# Altium schematic symbol library Resistors_CPF-0805.SchLib: 384 symbols (part 2 of 3)
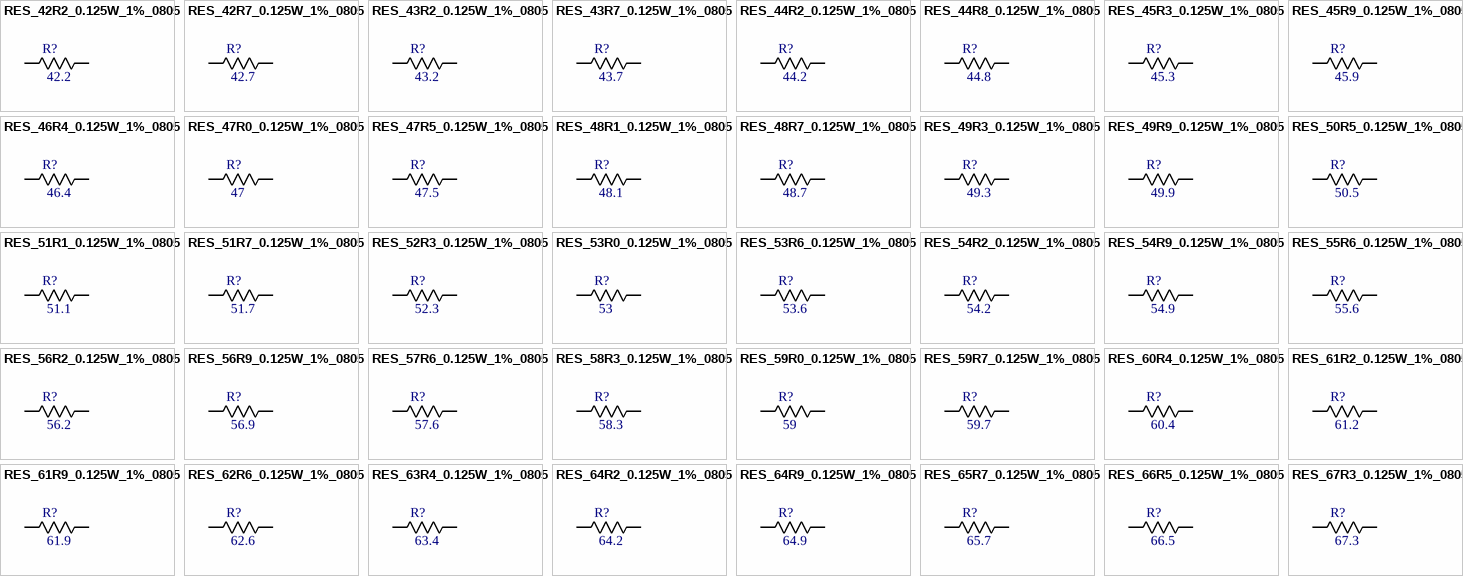
[diagram p10: symbols RES_42R2_0.125W_1%_0805 to RES_67R3_0.125W_1%_0805]

## RES_56R2_0.125W_1%_0805
designator R?, comment 56.2
Resistenza SMD TE Connectivity Film sottile; Manufacturer_Part_Number: CPF0805B100RE; Voltage[V]: 100; Tollerance[%]: 0.1; Serie: CPF; Codice RS: 666-2516; Vendor: TE Connectivity; Type: Resistors; Package: 0805; Power[W]: 0.1; Value[OHM ]: 100
footprint RES_0816_SUS(My_MAXI)
pins: 1, 2

## RES_56R9_0.125W_1%_0805
designator R?, comment 56.9
Resistenza SMD TE Connectivity Film sottile; Manufacturer_Part_Number: CPF0805B100RE; Voltage[V]: 100; Tollerance[%]: 0.1; Serie: CPF; Codice RS: 666-2516; Vendor: TE Connectivity; Type: Resistors; Package: 0805; Power[W]: 0.1; Value[OHM ]: 100
footprint RES_0816_SUS(My_MAXI)
pins: 1, 2

## RES_57R6_0.125W_1%_0805
designator R?, comment 57.6
Resistenza SMD TE Connectivity Film sottile; Manufacturer_Part_Number: CPF0805B100RE; Voltage[V]: 100; Tollerance[%]: 0.1; Serie: CPF; Codice RS: 666-2516; Vendor: TE Connectivity; Type: Resistors; Package: 0805; Power[W]: 0.1; Value[OHM ]: 100
footprint RES_0816_SUS(My_MAXI)
pins: 1, 2

## RES_58R3_0.125W_1%_0805
designator R?, comment 58.3
Resistenza SMD TE Connectivity Film sottile; Manufacturer_Part_Number: CPF0805B100RE; Voltage[V]: 100; Tollerance[%]: 0.1; Serie: CPF; Codice RS: 666-2516; Vendor: TE Connectivity; Type: Resistors; Package: 0805; Power[W]: 0.1; Value[OHM ]: 100
footprint RES_0816_SUS(My_MAXI)
pins: 1, 2

## RES_59R0_0.125W_1%_0805
designator R?, comment 59
Resistenza SMD TE Connectivity Film sottile; Manufacturer_Part_Number: CPF0805B100RE; Voltage[V]: 100; Tollerance[%]: 0.1; Serie: CPF; Codice RS: 666-2516; Vendor: TE Connectivity; Type: Resistors; Package: 0805; Power[W]: 0.1; Value[OHM ]: 100
footprint RES_0816_SUS(My_MAXI)
pins: 1, 2

## RES_59R7_0.125W_1%_0805
designator R?, comment 59.7
Resistenza SMD TE Connectivity Film sottile; Manufacturer_Part_Number: CPF0805B100RE; Voltage[V]: 100; Tollerance[%]: 0.1; Serie: CPF; Codice RS: 666-2516; Vendor: TE Connectivity; Type: Resistors; Package: 0805; Power[W]: 0.1; Value[OHM ]: 100
footprint RES_0816_SUS(My_MAXI)
pins: 1, 2

## RES_60R4_0.125W_1%_0805
designator R?, comment 60.4
Resistenza SMD TE Connectivity Film sottile; Manufacturer_Part_Number: CPF0805B100RE; Voltage[V]: 100; Tollerance[%]: 0.1; Serie: CPF; Codice RS: 666-2516; Vendor: TE Connectivity; Type: Resistors; Package: 0805; Power[W]: 0.1; Value[OHM ]: 100
footprint RES_0816_SUS(My_MAXI)
pins: 1, 2

## RES_61R2_0.125W_1%_0805
designator R?, comment 61.2
Resistenza SMD TE Connectivity Film sottile; Manufacturer_Part_Number: CPF0805B100RE; Voltage[V]: 100; Tollerance[%]: 0.1; Serie: CPF; Codice RS: 666-2516; Vendor: TE Connectivity; Type: Resistors; Package: 0805; Power[W]: 0.1; Value[OHM ]: 100
footprint RES_0816_SUS(My_MAXI)
pins: 1, 2

## RES_61R9_0.125W_1%_0805
designator R?, comment 61.9
Resistenza SMD TE Connectivity Film sottile; Manufacturer_Part_Number: CPF0805B100RE; Voltage[V]: 100; Tollerance[%]: 0.1; Serie: CPF; Codice RS: 666-2516; Vendor: TE Connectivity; Type: Resistors; Package: 0805; Power[W]: 0.1; Value[OHM ]: 100
footprint RES_0816_SUS(My_MAXI)
pins: 1, 2

## RES_62R6_0.125W_1%_0805
designator R?, comment 62.6
Resistenza SMD TE Connectivity Film sottile; Manufacturer_Part_Number: CPF0805B100RE; Voltage[V]: 100; Tollerance[%]: 0.1; Serie: CPF; Codice RS: 666-2516; Vendor: TE Connectivity; Type: Resistors; Package: 0805; Power[W]: 0.1; Value[OHM ]: 100
footprint RES_0816_SUS(My_MAXI)
pins: 1, 2

## RES_63R4_0.125W_1%_0805
designator R?, comment 63.4
Resistenza SMD TE Connectivity Film sottile; Manufacturer_Part_Number: CPF0805B100RE; Voltage[V]: 100; Tollerance[%]: 0.1; Serie: CPF; Codice RS: 666-2516; Vendor: TE Connectivity; Type: Resistors; Package: 0805; Power[W]: 0.1; Value[OHM ]: 100
footprint RES_0816_SUS(My_MAXI)
pins: 1, 2

## RES_64R2_0.125W_1%_0805
designator R?, comment 64.2
Resistenza SMD TE Connectivity Film sottile; Manufacturer_Part_Number: CPF0805B100RE; Voltage[V]: 100; Tollerance[%]: 0.1; Serie: CPF; Codice RS: 666-2516; Vendor: TE Connectivity; Type: Resistors; Package: 0805; Power[W]: 0.1; Value[OHM ]: 100
footprint RES_0816_SUS(My_MAXI)
pins: 1, 2

## RES_64R9_0.125W_1%_0805
designator R?, comment 64.9
Resistenza SMD TE Connectivity Film sottile; Manufacturer_Part_Number: CPF0805B100RE; Voltage[V]: 100; Tollerance[%]: 0.1; Serie: CPF; Codice RS: 666-2516; Vendor: TE Connectivity; Type: Resistors; Package: 0805; Power[W]: 0.1; Value[OHM ]: 100
footprint RES_0816_SUS(My_MAXI)
pins: 1, 2

## RES_65R7_0.125W_1%_0805
designator R?, comment 65.7
Resistenza SMD TE Connectivity Film sottile; Manufacturer_Part_Number: CPF0805B100RE; Voltage[V]: 100; Tollerance[%]: 0.1; Serie: CPF; Codice RS: 666-2516; Vendor: TE Connectivity; Type: Resistors; Package: 0805; Power[W]: 0.1; Value[OHM ]: 100
footprint RES_0816_SUS(My_MAXI)
pins: 1, 2

## RES_66R5_0.125W_1%_0805
designator R?, comment 66.5
Resistenza SMD TE Connectivity Film sottile; Manufacturer_Part_Number: CPF0805B100RE; Voltage[V]: 100; Tollerance[%]: 0.1; Serie: CPF; Codice RS: 666-2516; Vendor: TE Connectivity; Type: Resistors; Package: 0805; Power[W]: 0.1; Value[OHM ]: 100
footprint RES_0816_SUS(My_MAXI)
pins: 1, 2

## RES_67R3_0.125W_1%_0805
designator R?, comment 67.3
Resistenza SMD TE Connectivity Film sottile; Manufacturer_Part_Number: CPF0805B100RE; Voltage[V]: 100; Tollerance[%]: 0.1; Serie: CPF; Codice RS: 666-2516; Vendor: TE Connectivity; Type: Resistors; Package: 0805; Power[W]: 0.1; Value[OHM ]: 100
footprint RES_0816_SUS(My_MAXI)
pins: 1, 2

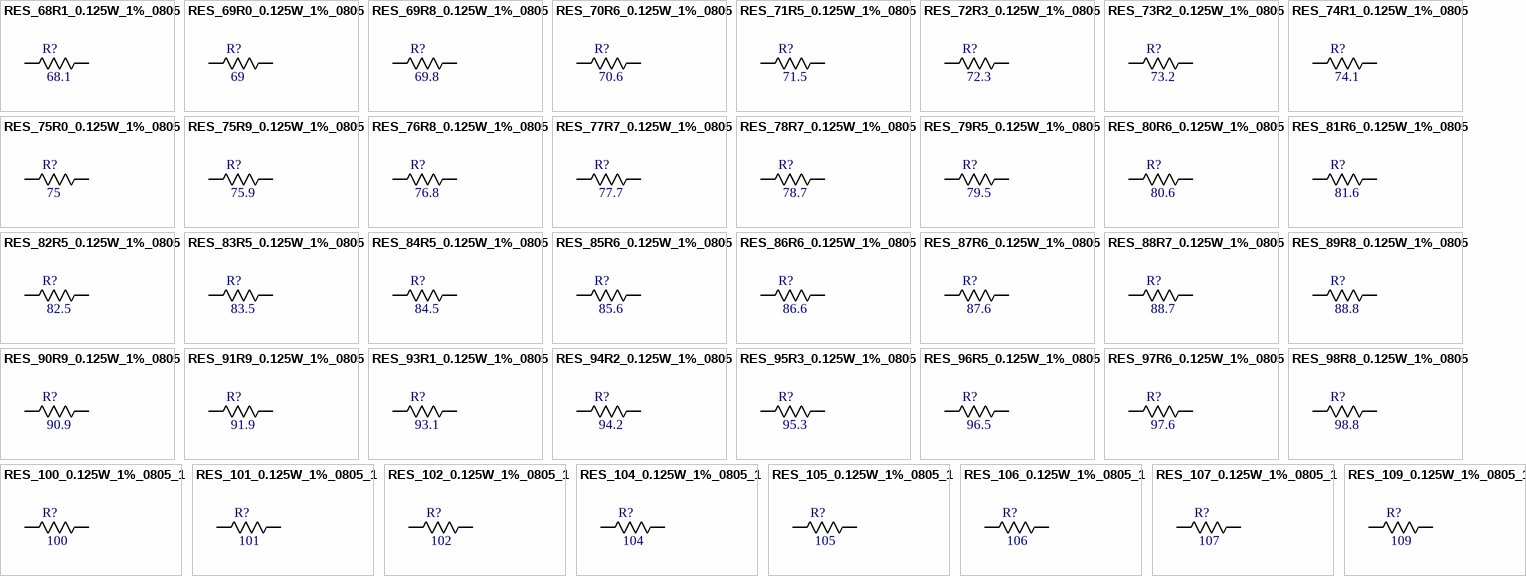
[diagram p4: symbols RES_68R1_0.125W_1%_0805 to RES_109_0.125W_1%_0805_1]

## RES_68R1_0.125W_1%_0805
designator R?, comment 68.1
Resistenza SMD TE Connectivity Film sottile; Manufacturer_Part_Number: CPF0805B100RE; Voltage[V]: 100; Tollerance[%]: 0.1; Serie: CPF; Codice RS: 666-2516; Vendor: TE Connectivity; Type: Resistors; Package: 0805; Power[W]: 0.1; Value[OHM ]: 100
footprint RES_0816_SUS(My_MAXI)
pins: 1, 2

## RES_69R0_0.125W_1%_0805
designator R?, comment 69
Resistenza SMD TE Connectivity Film sottile; Manufacturer_Part_Number: CPF0805B100RE; Voltage[V]: 100; Tollerance[%]: 0.1; Serie: CPF; Codice RS: 666-2516; Vendor: TE Connectivity; Type: Resistors; Package: 0805; Power[W]: 0.1; Value[OHM ]: 100
footprint RES_0816_SUS(My_MAXI)
pins: 1, 2

## RES_69R8_0.125W_1%_0805
designator R?, comment 69.8
Resistenza SMD TE Connectivity Film sottile; Manufacturer_Part_Number: CPF0805B100RE; Voltage[V]: 100; Tollerance[%]: 0.1; Serie: CPF; Codice RS: 666-2516; Vendor: TE Connectivity; Type: Resistors; Package: 0805; Power[W]: 0.1; Value[OHM ]: 100
footprint RES_0816_SUS(My_MAXI)
pins: 1, 2

## RES_70R6_0.125W_1%_0805
designator R?, comment 70.6
Resistenza SMD TE Connectivity Film sottile; Manufacturer_Part_Number: CPF0805B100RE; Voltage[V]: 100; Tollerance[%]: 0.1; Serie: CPF; Codice RS: 666-2516; Vendor: TE Connectivity; Type: Resistors; Package: 0805; Power[W]: 0.1; Value[OHM ]: 100
footprint RES_0816_SUS(My_MAXI)
pins: 1, 2

## RES_71R5_0.125W_1%_0805
designator R?, comment 71.5
Resistenza SMD TE Connectivity Film sottile; Manufacturer_Part_Number: CPF0805B100RE; Voltage[V]: 100; Tollerance[%]: 0.1; Serie: CPF; Codice RS: 666-2516; Vendor: TE Connectivity; Type: Resistors; Package: 0805; Power[W]: 0.1; Value[OHM ]: 100
footprint RES_0816_SUS(My_MAXI)
pins: 1, 2

## RES_72R3_0.125W_1%_0805
designator R?, comment 72.3
Resistenza SMD TE Connectivity Film sottile; Manufacturer_Part_Number: CPF0805B100RE; Voltage[V]: 100; Tollerance[%]: 0.1; Serie: CPF; Codice RS: 666-2516; Vendor: TE Connectivity; Type: Resistors; Package: 0805; Power[W]: 0.1; Value[OHM ]: 100
footprint RES_0816_SUS(My_MAXI)
pins: 1, 2

## RES_73R2_0.125W_1%_0805
designator R?, comment 73.2
Resistenza SMD TE Connectivity Film sottile; Manufacturer_Part_Number: CPF0805B100RE; Voltage[V]: 100; Tollerance[%]: 0.1; Serie: CPF; Codice RS: 666-2516; Vendor: TE Connectivity; Type: Resistors; Package: 0805; Power[W]: 0.1; Value[OHM ]: 100
footprint RES_0816_SUS(My_MAXI)
pins: 1, 2

## RES_74R1_0.125W_1%_0805
designator R?, comment 74.1
Resistenza SMD TE Connectivity Film sottile; Manufacturer_Part_Number: CPF0805B100RE; Voltage[V]: 100; Tollerance[%]: 0.1; Serie: CPF; Codice RS: 666-2516; Vendor: TE Connectivity; Type: Resistors; Package: 0805; Power[W]: 0.1; Value[OHM ]: 100
footprint RES_0816_SUS(My_MAXI)
pins: 1, 2

## RES_75R0_0.125W_1%_0805
designator R?, comment 75
Resistenza SMD TE Connectivity Film sottile; Manufacturer_Part_Number: CPF0805B100RE; Voltage[V]: 100; Tollerance[%]: 0.1; Serie: CPF; Codice RS: 666-2516; Vendor: TE Connectivity; Type: Resistors; Package: 0805; Power[W]: 0.1; Value[OHM ]: 100
footprint RES_0816_SUS(My_MAXI)
pins: 1, 2

## RES_75R9_0.125W_1%_0805
designator R?, comment 75.9
Resistenza SMD TE Connectivity Film sottile; Manufacturer_Part_Number: CPF0805B100RE; Voltage[V]: 100; Tollerance[%]: 0.1; Serie: CPF; Codice RS: 666-2516; Vendor: TE Connectivity; Type: Resistors; Package: 0805; Power[W]: 0.1; Value[OHM ]: 100
footprint RES_0816_SUS(My_MAXI)
pins: 1, 2

## RES_76R8_0.125W_1%_0805
designator R?, comment 76.8
Resistenza SMD TE Connectivity Film sottile; Manufacturer_Part_Number: CPF0805B100RE; Voltage[V]: 100; Tollerance[%]: 0.1; Serie: CPF; Codice RS: 666-2516; Vendor: TE Connectivity; Type: Resistors; Package: 0805; Power[W]: 0.1; Value[OHM ]: 100
footprint RES_0816_SUS(My_MAXI)
pins: 1, 2

## RES_77R7_0.125W_1%_0805
designator R?, comment 77.7
Resistenza SMD TE Connectivity Film sottile; Manufacturer_Part_Number: CPF0805B100RE; Voltage[V]: 100; Tollerance[%]: 0.1; Serie: CPF; Codice RS: 666-2516; Vendor: TE Connectivity; Type: Resistors; Package: 0805; Power[W]: 0.1; Value[OHM ]: 100
footprint RES_0816_SUS(My_MAXI)
pins: 1, 2

## RES_78R7_0.125W_1%_0805
designator R?, comment 78.7
Resistenza SMD TE Connectivity Film sottile; Manufacturer_Part_Number: CPF0805B100RE; Voltage[V]: 100; Tollerance[%]: 0.1; Serie: CPF; Codice RS: 666-2516; Vendor: TE Connectivity; Type: Resistors; Package: 0805; Power[W]: 0.1; Value[OHM ]: 100
footprint RES_0816_SUS(My_MAXI)
pins: 1, 2

## RES_79R5_0.125W_1%_0805
designator R?, comment 79.5
Resistenza SMD TE Connectivity Film sottile; Manufacturer_Part_Number: CPF0805B100RE; Voltage[V]: 100; Tollerance[%]: 0.1; Serie: CPF; Codice RS: 666-2516; Vendor: TE Connectivity; Type: Resistors; Package: 0805; Power[W]: 0.1; Value[OHM ]: 100
footprint RES_0816_SUS(My_MAXI)
pins: 1, 2

## RES_80R6_0.125W_1%_0805
designator R?, comment 80.6
Resistenza SMD TE Connectivity Film sottile; Manufacturer_Part_Number: CPF0805B100RE; Voltage[V]: 100; Tollerance[%]: 0.1; Serie: CPF; Codice RS: 666-2516; Vendor: TE Connectivity; Type: Resistors; Package: 0805; Power[W]: 0.1; Value[OHM ]: 100
footprint RES_0816_SUS(My_MAXI)
pins: 1, 2

## RES_81R6_0.125W_1%_0805
designator R?, comment 81.6
Resistenza SMD TE Connectivity Film sottile; Manufacturer_Part_Number: CPF0805B100RE; Voltage[V]: 100; Tollerance[%]: 0.1; Serie: CPF; Codice RS: 666-2516; Vendor: TE Connectivity; Type: Resistors; Package: 0805; Power[W]: 0.1; Value[OHM ]: 100
footprint RES_0816_SUS(My_MAXI)
pins: 1, 2

## RES_82R5_0.125W_1%_0805
designator R?, comment 82.5
Resistenza SMD TE Connectivity Film sottile; Manufacturer_Part_Number: CPF0805B100RE; Voltage[V]: 100; Tollerance[%]: 0.1; Serie: CPF; Codice RS: 666-2516; Vendor: TE Connectivity; Type: Resistors; Package: 0805; Power[W]: 0.1; Value[OHM ]: 100
footprint RES_0816_SUS(My_MAXI)
pins: 1, 2

## RES_83R5_0.125W_1%_0805
designator R?, comment 83.5
Resistenza SMD TE Connectivity Film sottile; Manufacturer_Part_Number: CPF0805B100RE; Voltage[V]: 100; Tollerance[%]: 0.1; Serie: CPF; Codice RS: 666-2516; Vendor: TE Connectivity; Type: Resistors; Package: 0805; Power[W]: 0.1; Value[OHM ]: 100
footprint RES_0816_SUS(My_MAXI)
pins: 1, 2

## RES_84R5_0.125W_1%_0805
designator R?, comment 84.5
Resistenza SMD TE Connectivity Film sottile; Manufacturer_Part_Number: CPF0805B100RE; Voltage[V]: 100; Tollerance[%]: 0.1; Serie: CPF; Codice RS: 666-2516; Vendor: TE Connectivity; Type: Resistors; Package: 0805; Power[W]: 0.1; Value[OHM ]: 100
footprint RES_0816_SUS(My_MAXI)
pins: 1, 2

## RES_85R6_0.125W_1%_0805
designator R?, comment 85.6
Resistenza SMD TE Connectivity Film sottile; Manufacturer_Part_Number: CPF0805B100RE; Voltage[V]: 100; Tollerance[%]: 0.1; Serie: CPF; Codice RS: 666-2516; Vendor: TE Connectivity; Type: Resistors; Package: 0805; Power[W]: 0.1; Value[OHM ]: 100
footprint RES_0816_SUS(My_MAXI)
pins: 1, 2

## RES_86R6_0.125W_1%_0805
designator R?, comment 86.6
Resistenza SMD TE Connectivity Film sottile; Manufacturer_Part_Number: CPF0805B100RE; Voltage[V]: 100; Tollerance[%]: 0.1; Serie: CPF; Codice RS: 666-2516; Vendor: TE Connectivity; Type: Resistors; Package: 0805; Power[W]: 0.1; Value[OHM ]: 100
footprint RES_0816_SUS(My_MAXI)
pins: 1, 2

## RES_87R6_0.125W_1%_0805
designator R?, comment 87.6
Resistenza SMD TE Connectivity Film sottile; Manufacturer_Part_Number: CPF0805B100RE; Voltage[V]: 100; Tollerance[%]: 0.1; Serie: CPF; Codice RS: 666-2516; Vendor: TE Connectivity; Type: Resistors; Package: 0805; Power[W]: 0.1; Value[OHM ]: 100
footprint RES_0816_SUS(My_MAXI)
pins: 1, 2

## RES_88R7_0.125W_1%_0805
designator R?, comment 88.7
Resistenza SMD TE Connectivity Film sottile; Manufacturer_Part_Number: CPF0805B100RE; Voltage[V]: 100; Tollerance[%]: 0.1; Serie: CPF; Codice RS: 666-2516; Vendor: TE Connectivity; Type: Resistors; Package: 0805; Power[W]: 0.1; Value[OHM ]: 100
footprint RES_0816_SUS(My_MAXI)
pins: 1, 2

## RES_89R8_0.125W_1%_0805
designator R?, comment 88.8
Resistenza SMD TE Connectivity Film sottile; Manufacturer_Part_Number: CPF0805B100RE; Voltage[V]: 100; Tollerance[%]: 0.1; Serie: CPF; Codice RS: 666-2516; Vendor: TE Connectivity; Type: Resistors; Package: 0805; Power[W]: 0.1; Value[OHM ]: 100
footprint RES_0816_SUS(My_MAXI)
pins: 1, 2

## RES_90R9_0.125W_1%_0805
designator R?, comment 90.9
Resistenza SMD TE Connectivity Film sottile; Manufacturer_Part_Number: CPF0805B100RE; Voltage[V]: 100; Tollerance[%]: 0.1; Serie: CPF; Codice RS: 666-2516; Vendor: TE Connectivity; Type: Resistors; Package: 0805; Power[W]: 0.1; Value[OHM ]: 100
footprint RES_0816_SUS(My_MAXI)
pins: 1, 2

## RES_91R9_0.125W_1%_0805
designator R?, comment 91.9
Resistenza SMD TE Connectivity Film sottile; Manufacturer_Part_Number: CPF0805B100RE; Voltage[V]: 100; Tollerance[%]: 0.1; Serie: CPF; Codice RS: 666-2516; Vendor: TE Connectivity; Type: Resistors; Package: 0805; Power[W]: 0.1; Value[OHM ]: 100
footprint RES_0816_SUS(My_MAXI)
pins: 1, 2

## RES_93R1_0.125W_1%_0805
designator R?, comment 93.1
Resistenza SMD TE Connectivity Film sottile; Manufacturer_Part_Number: CPF0805B100RE; Voltage[V]: 100; Tollerance[%]: 0.1; Serie: CPF; Codice RS: 666-2516; Vendor: TE Connectivity; Type: Resistors; Package: 0805; Power[W]: 0.1; Value[OHM ]: 100
footprint RES_0816_SUS(My_MAXI)
pins: 1, 2

## RES_94R2_0.125W_1%_0805
designator R?, comment 94.2
Resistenza SMD TE Connectivity Film sottile; Manufacturer_Part_Number: CPF0805B100RE; Voltage[V]: 100; Tollerance[%]: 0.1; Serie: CPF; Codice RS: 666-2516; Vendor: TE Connectivity; Type: Resistors; Package: 0805; Power[W]: 0.1; Value[OHM ]: 100
footprint RES_0816_SUS(My_MAXI)
pins: 1, 2

## RES_95R3_0.125W_1%_0805
designator R?, comment 95.3
Resistenza SMD TE Connectivity Film sottile; Manufacturer_Part_Number: CPF0805B100RE; Voltage[V]: 100; Tollerance[%]: 0.1; Serie: CPF; Codice RS: 666-2516; Vendor: TE Connectivity; Type: Resistors; Package: 0805; Power[W]: 0.1; Value[OHM ]: 100
footprint RES_0816_SUS(My_MAXI)
pins: 1, 2

## RES_96R5_0.125W_1%_0805
designator R?, comment 96.5
Resistenza SMD TE Connectivity Film sottile; Manufacturer_Part_Number: CPF0805B100RE; Voltage[V]: 100; Tollerance[%]: 0.1; Serie: CPF; Codice RS: 666-2516; Vendor: TE Connectivity; Type: Resistors; Package: 0805; Power[W]: 0.1; Value[OHM ]: 100
footprint RES_0816_SUS(My_MAXI)
pins: 1, 2

## RES_97R6_0.125W_1%_0805
designator R?, comment 97.6
Resistenza SMD TE Connectivity Film sottile; Manufacturer_Part_Number: CPF0805B100RE; Voltage[V]: 100; Tollerance[%]: 0.1; Serie: CPF; Codice RS: 666-2516; Vendor: TE Connectivity; Type: Resistors; Package: 0805; Power[W]: 0.1; Value[OHM ]: 100
footprint RES_0816_SUS(My_MAXI)
pins: 1, 2

## RES_98R8_0.125W_1%_0805
designator R?, comment 98.8
Resistenza SMD TE Connectivity Film sottile; Manufacturer_Part_Number: CPF0805B100RE; Voltage[V]: 100; Tollerance[%]: 0.1; Serie: CPF; Codice RS: 666-2516; Vendor: TE Connectivity; Type: Resistors; Package: 0805; Power[W]: 0.1; Value[OHM ]: 100
footprint RES_0816_SUS(My_MAXI)
pins: 1, 2

## RES_100_0.125W_1%_0805_1
designator R?, comment 100
Resistenza SMD TE Connectivity Film sottile; Manufacturer_Part_Number: CPF0805B100RE; Tollerance[%]: 0.1; Serie: CPF; Codice RS: 666-2516; Vendor: TE Connectivity; Type: Resistors; Voltage[V]: 100; Package: 0805; Power[W]: 0.1; Value[OHM ]: 100
footprint RES_0816_SUS(My_MAXI)
pins: 1, 2

## RES_101_0.125W_1%_0805_1
designator R?, comment 101
Resistenza SMD TE Connectivity Film sottile; Manufacturer_Part_Number: CPF0805B100RE; Voltage[V]: 100; Tollerance[%]: 0.1; Serie: CPF; Codice RS: 666-2516; Vendor: TE Connectivity; Type: Resistors; Package: 0805; Power[W]: 0.1; Value[OHM ]: 100
footprint RES_0816_SUS(My_MAXI)
pins: 1, 2

## RES_102_0.125W_1%_0805_1
designator R?, comment 102
Resistenza SMD TE Connectivity Film sottile; Manufacturer_Part_Number: CPF0805B100RE; Voltage[V]: 100; Tollerance[%]: 0.1; Serie: CPF; Codice RS: 666-2516; Vendor: TE Connectivity; Type: Resistors; Package: 0805; Power[W]: 0.1; Value[OHM ]: 100
footprint RES_0816_SUS(My_MAXI)
pins: 1, 2

## RES_104_0.125W_1%_0805_1
designator R?, comment 104
Resistenza SMD TE Connectivity Film sottile; Manufacturer_Part_Number: CPF0805B100RE; Voltage[V]: 100; Tollerance[%]: 0.1; Serie: CPF; Codice RS: 666-2516; Vendor: TE Connectivity; Type: Resistors; Package: 0805; Power[W]: 0.1; Value[OHM ]: 100
footprint RES_0816_SUS(My_MAXI)
pins: 1, 2

## RES_105_0.125W_1%_0805_1
designator R?, comment 105
Resistenza SMD TE Connectivity Film sottile; Manufacturer_Part_Number: CPF0805B100RE; Voltage[V]: 100; Tollerance[%]: 0.1; Serie: CPF; Codice RS: 666-2516; Vendor: TE Connectivity; Type: Resistors; Package: 0805; Power[W]: 0.1; Value[OHM ]: 100
footprint RES_0816_SUS(My_MAXI)
pins: 1, 2

## RES_106_0.125W_1%_0805_1
designator R?, comment 106
Resistenza SMD TE Connectivity Film sottile; Manufacturer_Part_Number: CPF0805B100RE; Voltage[V]: 100; Tollerance[%]: 0.1; Serie: CPF; Codice RS: 666-2516; Vendor: TE Connectivity; Type: Resistors; Package: 0805; Power[W]: 0.1; Value[OHM ]: 100
footprint RES_0816_SUS(My_MAXI)
pins: 1, 2

## RES_107_0.125W_1%_0805_1
designator R?, comment 107
Resistenza SMD TE Connectivity Film sottile; Manufacturer_Part_Number: CPF0805B100RE; Voltage[V]: 100; Tollerance[%]: 0.1; Serie: CPF; Codice RS: 666-2516; Vendor: TE Connectivity; Type: Resistors; Package: 0805; Power[W]: 0.1; Value[OHM ]: 100
footprint RES_0816_SUS(My_MAXI)
pins: 1, 2

## RES_109_0.125W_1%_0805_1
designator R?, comment 109
Resistenza SMD TE Connectivity Film sottile; Manufacturer_Part_Number: CPF0805B100RE; Voltage[V]: 100; Tollerance[%]: 0.1; Serie: CPF; Codice RS: 666-2516; Vendor: TE Connectivity; Type: Resistors; Package: 0805; Power[W]: 0.1; Value[OHM ]: 100
footprint RES_0816_SUS(My_MAXI)
pins: 1, 2

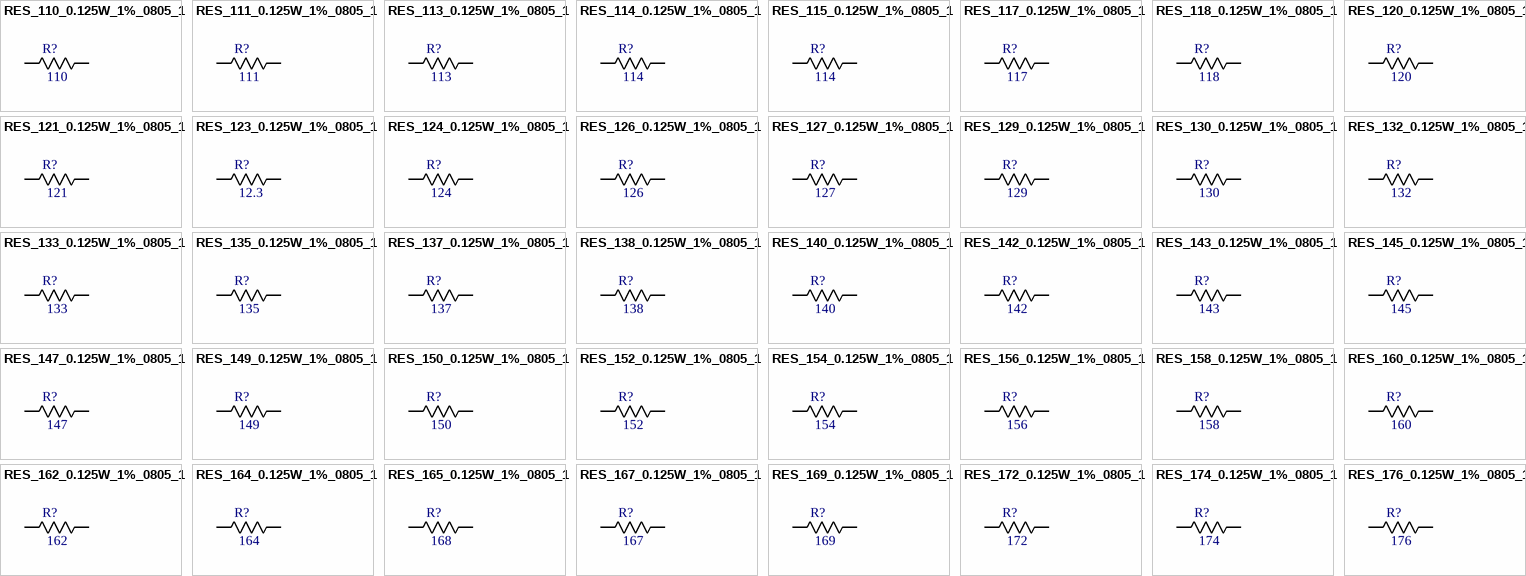
[diagram p5: symbols RES_110_0.125W_1%_0805_1 to RES_176_0.125W_1%_0805_1]

## RES_110_0.125W_1%_0805_1
designator R?, comment 110
Resistenza SMD TE Connectivity Film sottile; Manufacturer_Part_Number: CPF0805B100RE; Voltage[V]: 100; Tollerance[%]: 0.1; Serie: CPF; Codice RS: 666-2516; Vendor: TE Connectivity; Type: Resistors; Package: 0805; Power[W]: 0.1; Value[OHM ]: 100
footprint RES_0816_SUS(My_MAXI)
pins: 1, 2

## RES_111_0.125W_1%_0805_1
designator R?, comment 111
Resistenza SMD TE Connectivity Film sottile; Manufacturer_Part_Number: CPF0805B100RE; Voltage[V]: 100; Tollerance[%]: 0.1; Serie: CPF; Codice RS: 666-2516; Vendor: TE Connectivity; Type: Resistors; Package: 0805; Power[W]: 0.1; Value[OHM ]: 100
footprint RES_0816_SUS(My_MAXI)
pins: 1, 2

## RES_113_0.125W_1%_0805_1
designator R?, comment 113
Resistenza SMD TE Connectivity Film sottile; Manufacturer_Part_Number: CPF0805B100RE; Voltage[V]: 100; Tollerance[%]: 0.1; Serie: CPF; Codice RS: 666-2516; Vendor: TE Connectivity; Type: Resistors; Package: 0805; Power[W]: 0.1; Value[OHM ]: 100
footprint RES_0816_SUS(My_MAXI)
pins: 1, 2

## RES_114_0.125W_1%_0805_1
designator R?, comment 114
Resistenza SMD TE Connectivity Film sottile; Manufacturer_Part_Number: CPF0805B100RE; Voltage[V]: 100; Tollerance[%]: 0.1; Serie: CPF; Codice RS: 666-2516; Vendor: TE Connectivity; Type: Resistors; Package: 0805; Power[W]: 0.1; Value[OHM ]: 100
footprint RES_0816_SUS(My_MAXI)
pins: 1, 2

## RES_115_0.125W_1%_0805_1
designator R?, comment 114
Resistenza SMD TE Connectivity Film sottile; Manufacturer_Part_Number: CPF0805B100RE; Voltage[V]: 100; Tollerance[%]: 0.1; Serie: CPF; Codice RS: 666-2516; Vendor: TE Connectivity; Type: Resistors; Package: 0805; Power[W]: 0.1; Value[OHM ]: 100
footprint RES_0816_SUS(My_MAXI)
pins: 1, 2

## RES_117_0.125W_1%_0805_1
designator R?, comment 117
Resistenza SMD TE Connectivity Film sottile; Manufacturer_Part_Number: CPF0805B100RE; Voltage[V]: 100; Tollerance[%]: 0.1; Serie: CPF; Codice RS: 666-2516; Vendor: TE Connectivity; Type: Resistors; Package: 0805; Power[W]: 0.1; Value[OHM ]: 100
footprint RES_0816_SUS(My_MAXI)
pins: 1, 2

## RES_118_0.125W_1%_0805_1
designator R?, comment 118
Resistenza SMD TE Connectivity Film sottile; Manufacturer_Part_Number: CPF0805B100RE; Voltage[V]: 100; Tollerance[%]: 0.1; Serie: CPF; Codice RS: 666-2516; Vendor: TE Connectivity; Type: Resistors; Package: 0805; Power[W]: 0.1; Value[OHM ]: 100
footprint RES_0816_SUS(My_MAXI)
pins: 1, 2

## RES_120_0.125W_1%_0805_1
designator R?, comment 120
Resistenza SMD TE Connectivity Film sottile; Manufacturer_Part_Number: CPF0805B100RE; Voltage[V]: 100; Tollerance[%]: 0.1; Serie: CPF; Codice RS: 666-2516; Vendor: TE Connectivity; Type: Resistors; Package: 0805; Power[W]: 0.1; Value[OHM ]: 100
footprint RES_0816_SUS(My_MAXI)
pins: 1, 2

## RES_121_0.125W_1%_0805_1
designator R?, comment 121
Resistenza SMD TE Connectivity Film sottile; Manufacturer_Part_Number: CPF0805B100RE; Voltage[V]: 100; Tollerance[%]: 0.1; Serie: CPF; Codice RS: 666-2516; Vendor: TE Connectivity; Type: Resistors; Package: 0805; Power[W]: 0.1; Value[OHM ]: 100
footprint RES_0816_SUS(My_MAXI)
pins: 1, 2

## RES_123_0.125W_1%_0805_1
designator R?, comment 12.3
Resistenza SMD TE Connectivity Film sottile; Manufacturer_Part_Number: CPF0805B100RE; Voltage[V]: 100; Tollerance[%]: 0.1; Serie: CPF; Codice RS: 666-2516; Vendor: TE Connectivity; Type: Resistors; Package: 0805; Power[W]: 0.1; Value[OHM ]: 100
footprint RES_0816_SUS(My_MAXI)
pins: 1, 2

## RES_124_0.125W_1%_0805_1
designator R?, comment 124
Resistenza SMD TE Connectivity Film sottile; Manufacturer_Part_Number: CPF0805B100RE; Voltage[V]: 100; Tollerance[%]: 0.1; Serie: CPF; Codice RS: 666-2516; Vendor: TE Connectivity; Type: Resistors; Package: 0805; Power[W]: 0.1; Value[OHM ]: 100
footprint RES_0816_SUS(My_MAXI)
pins: 1, 2

## RES_126_0.125W_1%_0805_1
designator R?, comment 126
Resistenza SMD TE Connectivity Film sottile; Manufacturer_Part_Number: CPF0805B100RE; Voltage[V]: 100; Tollerance[%]: 0.1; Serie: CPF; Codice RS: 666-2516; Vendor: TE Connectivity; Type: Resistors; Package: 0805; Power[W]: 0.1; Value[OHM ]: 100
footprint RES_0816_SUS(My_MAXI)
pins: 1, 2

## RES_127_0.125W_1%_0805_1
designator R?, comment 127
Resistenza SMD TE Connectivity Film sottile; Manufacturer_Part_Number: CPF0805B100RE; Voltage[V]: 100; Tollerance[%]: 0.1; Serie: CPF; Codice RS: 666-2516; Vendor: TE Connectivity; Type: Resistors; Package: 0805; Power[W]: 0.1; Value[OHM ]: 100
footprint RES_0816_SUS(My_MAXI)
pins: 1, 2

## RES_129_0.125W_1%_0805_1
designator R?, comment 129
Resistenza SMD TE Connectivity Film sottile; Manufacturer_Part_Number: CPF0805B100RE; Voltage[V]: 100; Tollerance[%]: 0.1; Serie: CPF; Codice RS: 666-2516; Vendor: TE Connectivity; Type: Resistors; Package: 0805; Power[W]: 0.1; Value[OHM ]: 100
footprint RES_0816_SUS(My_MAXI)
pins: 1, 2

## RES_130_0.125W_1%_0805_1
designator R?, comment 130
Resistenza SMD TE Connectivity Film sottile; Manufacturer_Part_Number: CPF0805B100RE; Voltage[V]: 100; Tollerance[%]: 0.1; Serie: CPF; Codice RS: 666-2516; Vendor: TE Connectivity; Type: Resistors; Package: 0805; Power[W]: 0.1; Value[OHM ]: 100
footprint RES_0816_SUS(My_MAXI)
pins: 1, 2

## RES_132_0.125W_1%_0805_1
designator R?, comment 132
Resistenza SMD TE Connectivity Film sottile; Manufacturer_Part_Number: CPF0805B100RE; Voltage[V]: 100; Tollerance[%]: 0.1; Serie: CPF; Codice RS: 666-2516; Vendor: TE Connectivity; Type: Resistors; Package: 0805; Power[W]: 0.1; Value[OHM ]: 100
footprint RES_0816_SUS(My_MAXI)
pins: 1, 2

## RES_133_0.125W_1%_0805_1
designator R?, comment 133
Resistenza SMD TE Connectivity Film sottile; Manufacturer_Part_Number: CPF0805B100RE; Voltage[V]: 100; Tollerance[%]: 0.1; Serie: CPF; Codice RS: 666-2516; Vendor: TE Connectivity; Type: Resistors; Package: 0805; Power[W]: 0.1; Value[OHM ]: 100
footprint RES_0816_SUS(My_MAXI)
pins: 1, 2

## RES_135_0.125W_1%_0805_1
designator R?, comment 135
Resistenza SMD TE Connectivity Film sottile; Manufacturer_Part_Number: CPF0805B100RE; Voltage[V]: 100; Tollerance[%]: 0.1; Serie: CPF; Codice RS: 666-2516; Vendor: TE Connectivity; Type: Resistors; Package: 0805; Power[W]: 0.1; Value[OHM ]: 100
footprint RES_0816_SUS(My_MAXI)
pins: 1, 2

## RES_137_0.125W_1%_0805_1
designator R?, comment 137
Resistenza SMD TE Connectivity Film sottile; Manufacturer_Part_Number: CPF0805B100RE; Voltage[V]: 100; Tollerance[%]: 0.1; Serie: CPF; Codice RS: 666-2516; Vendor: TE Connectivity; Type: Resistors; Package: 0805; Power[W]: 0.1; Value[OHM ]: 100
footprint RES_0816_SUS(My_MAXI)
pins: 1, 2

## RES_138_0.125W_1%_0805_1
designator R?, comment 138
Resistenza SMD TE Connectivity Film sottile; Manufacturer_Part_Number: CPF0805B100RE; Voltage[V]: 100; Tollerance[%]: 0.1; Serie: CPF; Codice RS: 666-2516; Vendor: TE Connectivity; Type: Resistors; Package: 0805; Power[W]: 0.1; Value[OHM ]: 100
footprint RES_0816_SUS(My_MAXI)
pins: 1, 2

## RES_140_0.125W_1%_0805_1
designator R?, comment 140
Resistenza SMD TE Connectivity Film sottile; Manufacturer_Part_Number: CPF0805B100RE; Voltage[V]: 100; Tollerance[%]: 0.1; Serie: CPF; Codice RS: 666-2516; Vendor: TE Connectivity; Type: Resistors; Package: 0805; Power[W]: 0.1; Value[OHM ]: 100
footprint RES_0816_SUS(My_MAXI)
pins: 1, 2

## RES_142_0.125W_1%_0805_1
designator R?, comment 142
Resistenza SMD TE Connectivity Film sottile; Manufacturer_Part_Number: CPF0805B100RE; Voltage[V]: 100; Tollerance[%]: 0.1; Serie: CPF; Codice RS: 666-2516; Vendor: TE Connectivity; Type: Resistors; Package: 0805; Power[W]: 0.1; Value[OHM ]: 100
footprint RES_0816_SUS(My_MAXI)
pins: 1, 2

## RES_143_0.125W_1%_0805_1
designator R?, comment 143
Resistenza SMD TE Connectivity Film sottile; Manufacturer_Part_Number: CPF0805B100RE; Voltage[V]: 100; Tollerance[%]: 0.1; Serie: CPF; Codice RS: 666-2516; Vendor: TE Connectivity; Type: Resistors; Package: 0805; Power[W]: 0.1; Value[OHM ]: 100
footprint RES_0816_SUS(My_MAXI)
pins: 1, 2

## RES_145_0.125W_1%_0805_1
designator R?, comment 145
Resistenza SMD TE Connectivity Film sottile; Manufacturer_Part_Number: CPF0805B100RE; Voltage[V]: 100; Tollerance[%]: 0.1; Serie: CPF; Codice RS: 666-2516; Vendor: TE Connectivity; Type: Resistors; Package: 0805; Power[W]: 0.1; Value[OHM ]: 100
footprint RES_0816_SUS(My_MAXI)
pins: 1, 2

## RES_147_0.125W_1%_0805_1
designator R?, comment 147
Resistenza SMD TE Connectivity Film sottile; Manufacturer_Part_Number: CPF0805B100RE; Voltage[V]: 100; Tollerance[%]: 0.1; Serie: CPF; Codice RS: 666-2516; Vendor: TE Connectivity; Type: Resistors; Package: 0805; Power[W]: 0.1; Value[OHM ]: 100
footprint RES_0816_SUS(My_MAXI)
pins: 1, 2

## RES_149_0.125W_1%_0805_1
designator R?, comment 149
Resistenza SMD TE Connectivity Film sottile; Manufacturer_Part_Number: CPF0805B100RE; Voltage[V]: 100; Tollerance[%]: 0.1; Serie: CPF; Codice RS: 666-2516; Vendor: TE Connectivity; Type: Resistors; Package: 0805; Power[W]: 0.1; Value[OHM ]: 100
footprint RES_0816_SUS(My_MAXI)
pins: 1, 2

## RES_150_0.125W_1%_0805_1
designator R?, comment 150
Resistenza SMD TE Connectivity Film sottile; Manufacturer_Part_Number: CPF0805B100RE; Voltage[V]: 100; Tollerance[%]: 0.1; Serie: CPF; Codice RS: 666-2516; Vendor: TE Connectivity; Type: Resistors; Package: 0805; Power[W]: 0.1; Value[OHM ]: 100
footprint RES_0816_SUS(My_MAXI)
pins: 1, 2

## RES_152_0.125W_1%_0805_1
designator R?, comment 152
Resistenza SMD TE Connectivity Film sottile; Manufacturer_Part_Number: CPF0805B100RE; Voltage[V]: 100; Tollerance[%]: 0.1; Serie: CPF; Codice RS: 666-2516; Vendor: TE Connectivity; Type: Resistors; Package: 0805; Power[W]: 0.1; Value[OHM ]: 100
footprint RES_0816_SUS(My_MAXI)
pins: 1, 2

## RES_154_0.125W_1%_0805_1
designator R?, comment 154
Resistenza SMD TE Connectivity Film sottile; Manufacturer_Part_Number: CPF0805B100RE; Voltage[V]: 100; Tollerance[%]: 0.1; Serie: CPF; Codice RS: 666-2516; Vendor: TE Connectivity; Type: Resistors; Package: 0805; Power[W]: 0.1; Value[OHM ]: 100
footprint RES_0816_SUS(My_MAXI)
pins: 1, 2

## RES_156_0.125W_1%_0805_1
designator R?, comment 156
Resistenza SMD TE Connectivity Film sottile; Manufacturer_Part_Number: CPF0805B100RE; Voltage[V]: 100; Tollerance[%]: 0.1; Serie: CPF; Codice RS: 666-2516; Vendor: TE Connectivity; Type: Resistors; Package: 0805; Power[W]: 0.1; Value[OHM ]: 100
footprint RES_0816_SUS(My_MAXI)
pins: 1, 2

## RES_158_0.125W_1%_0805_1
designator R?, comment 158
Resistenza SMD TE Connectivity Film sottile; Manufacturer_Part_Number: CPF0805B100RE; Voltage[V]: 100; Tollerance[%]: 0.1; Serie: CPF; Codice RS: 666-2516; Vendor: TE Connectivity; Type: Resistors; Package: 0805; Power[W]: 0.1; Value[OHM ]: 100
footprint RES_0816_SUS(My_MAXI)
pins: 1, 2

## RES_160_0.125W_1%_0805_1
designator R?, comment 160
Resistenza SMD TE Connectivity Film sottile; Manufacturer_Part_Number: CPF0805B100RE; Voltage[V]: 100; Tollerance[%]: 0.1; Serie: CPF; Codice RS: 666-2516; Vendor: TE Connectivity; Type: Resistors; Package: 0805; Power[W]: 0.1; Value[OHM ]: 100
footprint RES_0816_SUS(My_MAXI)
pins: 1, 2

## RES_162_0.125W_1%_0805_1
designator R?, comment 162
Resistenza SMD TE Connectivity Film sottile; Manufacturer_Part_Number: CPF0805B100RE; Voltage[V]: 100; Tollerance[%]: 0.1; Serie: CPF; Codice RS: 666-2516; Vendor: TE Connectivity; Type: Resistors; Package: 0805; Power[W]: 0.1; Value[OHM ]: 100
footprint RES_0816_SUS(My_MAXI)
pins: 1, 2

## RES_164_0.125W_1%_0805_1
designator R?, comment 164
Resistenza SMD TE Connectivity Film sottile; Manufacturer_Part_Number: CPF0805B100RE; Voltage[V]: 100; Tollerance[%]: 0.1; Serie: CPF; Codice RS: 666-2516; Vendor: TE Connectivity; Type: Resistors; Package: 0805; Power[W]: 0.1; Value[OHM ]: 100
footprint RES_0816_SUS(My_MAXI)
pins: 1, 2

## RES_165_0.125W_1%_0805_1
designator R?, comment 168
Resistenza SMD TE Connectivity Film sottile; Manufacturer_Part_Number: CPF0805B100RE; Voltage[V]: 100; Tollerance[%]: 0.1; Serie: CPF; Codice RS: 666-2516; Vendor: TE Connectivity; Type: Resistors; Package: 0805; Power[W]: 0.1; Value[OHM ]: 100
footprint RES_0816_SUS(My_MAXI)
pins: 1, 2

## RES_167_0.125W_1%_0805_1
designator R?, comment 167
Resistenza SMD TE Connectivity Film sottile; Manufacturer_Part_Number: CPF0805B100RE; Voltage[V]: 100; Tollerance[%]: 0.1; Serie: CPF; Codice RS: 666-2516; Vendor: TE Connectivity; Type: Resistors; Package: 0805; Power[W]: 0.1; Value[OHM ]: 100
footprint RES_0816_SUS(My_MAXI)
pins: 1, 2

## RES_169_0.125W_1%_0805_1
designator R?, comment 169
Resistenza SMD TE Connectivity Film sottile; Manufacturer_Part_Number: CPF0805B100RE; Voltage[V]: 100; Tollerance[%]: 0.1; Serie: CPF; Codice RS: 666-2516; Vendor: TE Connectivity; Type: Resistors; Package: 0805; Power[W]: 0.1; Value[OHM ]: 100
footprint RES_0816_SUS(My_MAXI)
pins: 1, 2

## RES_172_0.125W_1%_0805_1
designator R?, comment 172
Resistenza SMD TE Connectivity Film sottile; Manufacturer_Part_Number: CPF0805B100RE; Voltage[V]: 100; Tollerance[%]: 0.1; Serie: CPF; Codice RS: 666-2516; Vendor: TE Connectivity; Type: Resistors; Package: 0805; Power[W]: 0.1; Value[OHM ]: 100
footprint RES_0816_SUS(My_MAXI)
pins: 1, 2

## RES_174_0.125W_1%_0805_1
designator R?, comment 174
Resistenza SMD TE Connectivity Film sottile; Manufacturer_Part_Number: CPF0805B100RE; Voltage[V]: 100; Tollerance[%]: 0.1; Serie: CPF; Codice RS: 666-2516; Vendor: TE Connectivity; Type: Resistors; Package: 0805; Power[W]: 0.1; Value[OHM ]: 100
footprint RES_0816_SUS(My_MAXI)
pins: 1, 2

## RES_176_0.125W_1%_0805_1
designator R?, comment 176
Resistenza SMD TE Connectivity Film sottile; Manufacturer_Part_Number: CPF0805B100RE; Voltage[V]: 100; Tollerance[%]: 0.1; Serie: CPF; Codice RS: 666-2516; Vendor: TE Connectivity; Type: Resistors; Package: 0805; Power[W]: 0.1; Value[OHM ]: 100
footprint RES_0816_SUS(My_MAXI)
pins: 1, 2

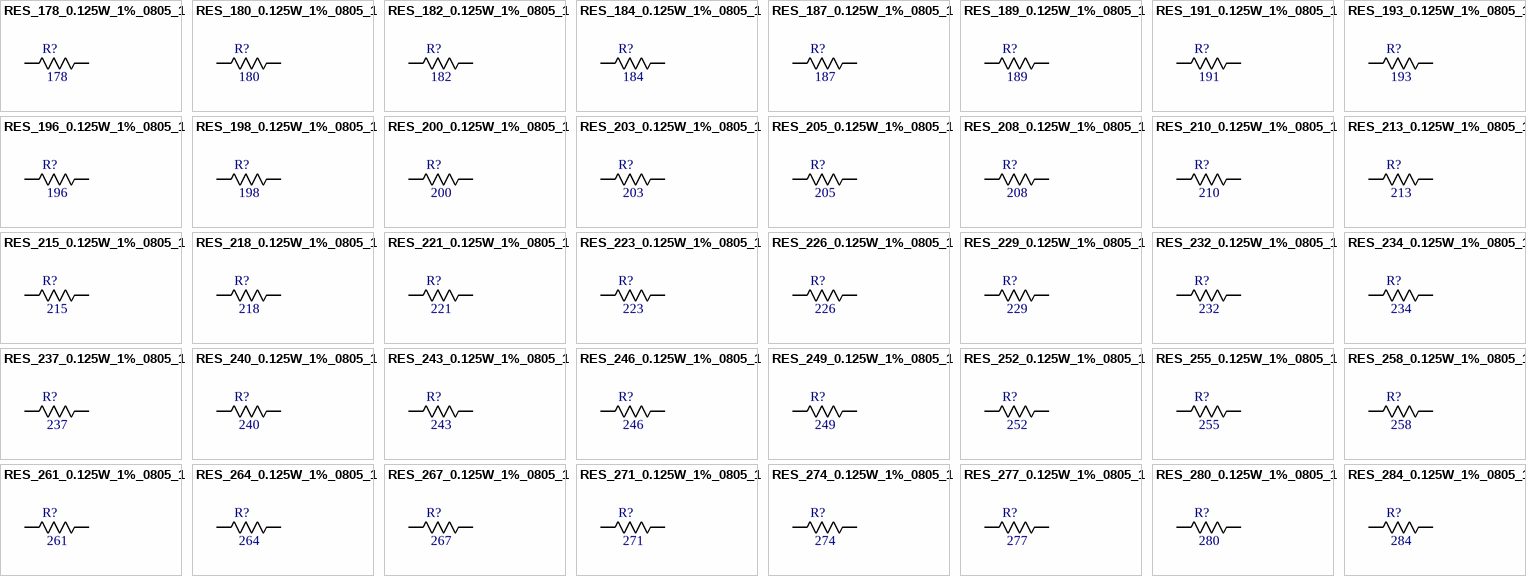
[diagram p6: symbols RES_178_0.125W_1%_0805_1 to RES_284_0.125W_1%_0805_1]

## RES_178_0.125W_1%_0805_1
designator R?, comment 178
Resistenza SMD TE Connectivity Film sottile; Manufacturer_Part_Number: CPF0805B100RE; Voltage[V]: 100; Tollerance[%]: 0.1; Serie: CPF; Codice RS: 666-2516; Vendor: TE Connectivity; Type: Resistors; Package: 0805; Power[W]: 0.1; Value[OHM ]: 100
footprint RES_0816_SUS(My_MAXI)
pins: 1, 2

## RES_180_0.125W_1%_0805_1
designator R?, comment 180
Resistenza SMD TE Connectivity Film sottile; Manufacturer_Part_Number: CPF0805B100RE; Voltage[V]: 100; Tollerance[%]: 0.1; Serie: CPF; Codice RS: 666-2516; Vendor: TE Connectivity; Type: Resistors; Package: 0805; Power[W]: 0.1; Value[OHM ]: 100
footprint RES_0816_SUS(My_MAXI)
pins: 1, 2

## RES_182_0.125W_1%_0805_1
designator R?, comment 182
Resistenza SMD TE Connectivity Film sottile; Manufacturer_Part_Number: CPF0805B100RE; Voltage[V]: 100; Tollerance[%]: 0.1; Serie: CPF; Codice RS: 666-2516; Vendor: TE Connectivity; Type: Resistors; Package: 0805; Power[W]: 0.1; Value[OHM ]: 100
footprint RES_0816_SUS(My_MAXI)
pins: 1, 2

## RES_184_0.125W_1%_0805_1
designator R?, comment 184
Resistenza SMD TE Connectivity Film sottile; Manufacturer_Part_Number: CPF0805B100RE; Voltage[V]: 100; Tollerance[%]: 0.1; Serie: CPF; Codice RS: 666-2516; Vendor: TE Connectivity; Type: Resistors; Package: 0805; Power[W]: 0.1; Value[OHM ]: 100
footprint RES_0816_SUS(My_MAXI)
pins: 1, 2

## RES_187_0.125W_1%_0805_1
designator R?, comment 187
Resistenza SMD TE Connectivity Film sottile; Manufacturer_Part_Number: CPF0805B100RE; Voltage[V]: 100; Tollerance[%]: 0.1; Serie: CPF; Codice RS: 666-2516; Vendor: TE Connectivity; Type: Resistors; Package: 0805; Power[W]: 0.1; Value[OHM ]: 100
footprint RES_0816_SUS(My_MAXI)
pins: 1, 2

## RES_189_0.125W_1%_0805_1
designator R?, comment 189
Resistenza SMD TE Connectivity Film sottile; Manufacturer_Part_Number: CPF0805B100RE; Voltage[V]: 100; Tollerance[%]: 0.1; Serie: CPF; Codice RS: 666-2516; Vendor: TE Connectivity; Type: Resistors; Package: 0805; Power[W]: 0.1; Value[OHM ]: 100
footprint RES_0816_SUS(My_MAXI)
pins: 1, 2

## RES_191_0.125W_1%_0805_1
designator R?, comment 191
Resistenza SMD TE Connectivity Film sottile; Manufacturer_Part_Number: CPF0805B100RE; Voltage[V]: 100; Tollerance[%]: 0.1; Serie: CPF; Codice RS: 666-2516; Vendor: TE Connectivity; Type: Resistors; Package: 0805; Power[W]: 0.1; Value[OHM ]: 100
footprint RES_0816_SUS(My_MAXI)
pins: 1, 2

## RES_193_0.125W_1%_0805_1
designator R?, comment 193
Resistenza SMD TE Connectivity Film sottile; Manufacturer_Part_Number: CPF0805B100RE; Voltage[V]: 100; Tollerance[%]: 0.1; Serie: CPF; Codice RS: 666-2516; Vendor: TE Connectivity; Type: Resistors; Package: 0805; Power[W]: 0.1; Value[OHM ]: 100
footprint RES_0816_SUS(My_MAXI)
pins: 1, 2

## RES_196_0.125W_1%_0805_1
designator R?, comment 196
Resistenza SMD TE Connectivity Film sottile; Manufacturer_Part_Number: CPF0805B100RE; Voltage[V]: 100; Tollerance[%]: 0.1; Serie: CPF; Codice RS: 666-2516; Vendor: TE Connectivity; Type: Resistors; Package: 0805; Power[W]: 0.1; Value[OHM ]: 100
footprint RES_0816_SUS(My_MAXI)
pins: 1, 2

## RES_198_0.125W_1%_0805_1
designator R?, comment 198
Resistenza SMD TE Connectivity Film sottile; Manufacturer_Part_Number: CPF0805B100RE; Voltage[V]: 100; Tollerance[%]: 0.1; Serie: CPF; Codice RS: 666-2516; Vendor: TE Connectivity; Type: Resistors; Package: 0805; Power[W]: 0.1; Value[OHM ]: 100
footprint RES_0816_SUS(My_MAXI)
pins: 1, 2

## RES_200_0.125W_1%_0805_1
designator R?, comment 200
Resistenza SMD TE Connectivity Film sottile; Manufacturer_Part_Number: CPF0805B100RE; Voltage[V]: 100; Tollerance[%]: 0.1; Serie: CPF; Codice RS: 666-2516; Vendor: TE Connectivity; Type: Resistors; Package: 0805; Power[W]: 0.1; Value[OHM ]: 100
footprint RES_0816_SUS(My_MAXI)
pins: 1, 2

## RES_203_0.125W_1%_0805_1
designator R?, comment 203
Resistenza SMD TE Connectivity Film sottile; Manufacturer_Part_Number: CPF0805B100RE; Voltage[V]: 100; Tollerance[%]: 0.1; Serie: CPF; Codice RS: 666-2516; Vendor: TE Connectivity; Type: Resistors; Package: 0805; Power[W]: 0.1; Value[OHM ]: 100
footprint RES_0816_SUS(My_MAXI)
pins: 1, 2

## RES_205_0.125W_1%_0805_1
designator R?, comment 205
Resistenza SMD TE Connectivity Film sottile; Manufacturer_Part_Number: CPF0805B100RE; Voltage[V]: 100; Tollerance[%]: 0.1; Serie: CPF; Codice RS: 666-2516; Vendor: TE Connectivity; Type: Resistors; Package: 0805; Power[W]: 0.1; Value[OHM ]: 100
footprint RES_0816_SUS(My_MAXI)
pins: 1, 2

## RES_208_0.125W_1%_0805_1
designator R?, comment 208
Resistenza SMD TE Connectivity Film sottile; Manufacturer_Part_Number: CPF0805B100RE; Voltage[V]: 100; Tollerance[%]: 0.1; Serie: CPF; Codice RS: 666-2516; Vendor: TE Connectivity; Type: Resistors; Package: 0805; Power[W]: 0.1; Value[OHM ]: 100
footprint RES_0816_SUS(My_MAXI)
pins: 1, 2

## RES_210_0.125W_1%_0805_1
designator R?, comment 210
Resistenza SMD TE Connectivity Film sottile; Manufacturer_Part_Number: CPF0805B100RE; Voltage[V]: 100; Tollerance[%]: 0.1; Serie: CPF; Codice RS: 666-2516; Vendor: TE Connectivity; Type: Resistors; Package: 0805; Power[W]: 0.1; Value[OHM ]: 100
footprint RES_0816_SUS(My_MAXI)
pins: 1, 2

## RES_213_0.125W_1%_0805_1
designator R?, comment 213
Resistenza SMD TE Connectivity Film sottile; Manufacturer_Part_Number: CPF0805B100RE; Voltage[V]: 100; Tollerance[%]: 0.1; Serie: CPF; Codice RS: 666-2516; Vendor: TE Connectivity; Type: Resistors; Package: 0805; Power[W]: 0.1; Value[OHM ]: 100
footprint RES_0816_SUS(My_MAXI)
pins: 1, 2

## RES_215_0.125W_1%_0805_1
designator R?, comment 215
Resistenza SMD TE Connectivity Film sottile; Manufacturer_Part_Number: CPF0805B100RE; Voltage[V]: 100; Tollerance[%]: 0.1; Serie: CPF; Codice RS: 666-2516; Vendor: TE Connectivity; Type: Resistors; Package: 0805; Power[W]: 0.1; Value[OHM ]: 100
footprint RES_0816_SUS(My_MAXI)
pins: 1, 2

## RES_218_0.125W_1%_0805_1
designator R?, comment 218
Resistenza SMD TE Connectivity Film sottile; Manufacturer_Part_Number: CPF0805B100RE; Voltage[V]: 100; Tollerance[%]: 0.1; Serie: CPF; Codice RS: 666-2516; Vendor: TE Connectivity; Type: Resistors; Package: 0805; Power[W]: 0.1; Value[OHM ]: 100
footprint RES_0816_SUS(My_MAXI)
pins: 1, 2

## RES_221_0.125W_1%_0805_1
designator R?, comment 221
Resistenza SMD TE Connectivity Film sottile; Manufacturer_Part_Number: CPF0805B100RE; Voltage[V]: 100; Tollerance[%]: 0.1; Serie: CPF; Codice RS: 666-2516; Vendor: TE Connectivity; Type: Resistors; Package: 0805; Power[W]: 0.1; Value[OHM ]: 100
footprint RES_0816_SUS(My_MAXI)
pins: 1, 2

## RES_223_0.125W_1%_0805_1
designator R?, comment 223
Resistenza SMD TE Connectivity Film sottile; Manufacturer_Part_Number: CPF0805B100RE; Voltage[V]: 100; Tollerance[%]: 0.1; Serie: CPF; Codice RS: 666-2516; Vendor: TE Connectivity; Type: Resistors; Package: 0805; Power[W]: 0.1; Value[OHM ]: 100
footprint RES_0816_SUS(My_MAXI)
pins: 1, 2

## RES_226_0.125W_1%_0805_1
designator R?, comment 226
Resistenza SMD TE Connectivity Film sottile; Manufacturer_Part_Number: CPF0805B100RE; Voltage[V]: 100; Tollerance[%]: 0.1; Serie: CPF; Codice RS: 666-2516; Vendor: TE Connectivity; Type: Resistors; Package: 0805; Power[W]: 0.1; Value[OHM ]: 100
footprint RES_0816_SUS(My_MAXI)
pins: 1, 2

## RES_229_0.125W_1%_0805_1
designator R?, comment 229
Resistenza SMD TE Connectivity Film sottile; Manufacturer_Part_Number: CPF0805B100RE; Voltage[V]: 100; Tollerance[%]: 0.1; Serie: CPF; Codice RS: 666-2516; Vendor: TE Connectivity; Type: Resistors; Package: 0805; Power[W]: 0.1; Value[OHM ]: 100
footprint RES_0816_SUS(My_MAXI)
pins: 1, 2

## RES_232_0.125W_1%_0805_1
designator R?, comment 232
Resistenza SMD TE Connectivity Film sottile; Manufacturer_Part_Number: CPF0805B100RE; Voltage[V]: 100; Tollerance[%]: 0.1; Serie: CPF; Codice RS: 666-2516; Vendor: TE Connectivity; Type: Resistors; Package: 0805; Power[W]: 0.1; Value[OHM ]: 100
footprint RES_0816_SUS(My_MAXI)
pins: 1, 2

## RES_234_0.125W_1%_0805_1
designator R?, comment 234
Resistenza SMD TE Connectivity Film sottile; Manufacturer_Part_Number: CPF0805B100RE; Voltage[V]: 100; Tollerance[%]: 0.1; Serie: CPF; Codice RS: 666-2516; Vendor: TE Connectivity; Type: Resistors; Package: 0805; Power[W]: 0.1; Value[OHM ]: 100
footprint RES_0816_SUS(My_MAXI)
pins: 1, 2

## RES_237_0.125W_1%_0805_1
designator R?, comment 237
Resistenza SMD TE Connectivity Film sottile; Manufacturer_Part_Number: CPF0805B100RE; Voltage[V]: 100; Tollerance[%]: 0.1; Serie: CPF; Codice RS: 666-2516; Vendor: TE Connectivity; Type: Resistors; Package: 0805; Power[W]: 0.1; Value[OHM ]: 100
footprint RES_0816_SUS(My_MAXI)
pins: 1, 2

## RES_240_0.125W_1%_0805_1
designator R?, comment 240
Resistenza SMD TE Connectivity Film sottile; Manufacturer_Part_Number: CPF0805B100RE; Voltage[V]: 100; Tollerance[%]: 0.1; Serie: CPF; Codice RS: 666-2516; Vendor: TE Connectivity; Type: Resistors; Package: 0805; Power[W]: 0.1; Value[OHM ]: 100
footprint RES_0816_SUS(My_MAXI)
pins: 1, 2

## RES_243_0.125W_1%_0805_1
designator R?, comment 243
Resistenza SMD TE Connectivity Film sottile; Manufacturer_Part_Number: CPF0805B100RE; Voltage[V]: 100; Tollerance[%]: 0.1; Serie: CPF; Codice RS: 666-2516; Vendor: TE Connectivity; Type: Resistors; Package: 0805; Power[W]: 0.1; Value[OHM ]: 100
footprint RES_0816_SUS(My_MAXI)
pins: 1, 2

## RES_246_0.125W_1%_0805_1
designator R?, comment 246
Resistenza SMD TE Connectivity Film sottile; Manufacturer_Part_Number: CPF0805B100RE; Voltage[V]: 100; Tollerance[%]: 0.1; Serie: CPF; Codice RS: 666-2516; Vendor: TE Connectivity; Type: Resistors; Package: 0805; Power[W]: 0.1; Value[OHM ]: 100
footprint RES_0816_SUS(My_MAXI)
pins: 1, 2

## RES_249_0.125W_1%_0805_1
designator R?, comment 249
Resistenza SMD TE Connectivity Film sottile; Manufacturer_Part_Number: CPF0805B100RE; Voltage[V]: 100; Tollerance[%]: 0.1; Serie: CPF; Codice RS: 666-2516; Vendor: TE Connectivity; Type: Resistors; Package: 0805; Power[W]: 0.1; Value[OHM ]: 100
footprint RES_0816_SUS(My_MAXI)
pins: 1, 2

## RES_252_0.125W_1%_0805_1
designator R?, comment 252
Resistenza SMD TE Connectivity Film sottile; Manufacturer_Part_Number: CPF0805B100RE; Voltage[V]: 100; Tollerance[%]: 0.1; Serie: CPF; Codice RS: 666-2516; Vendor: TE Connectivity; Type: Resistors; Package: 0805; Power[W]: 0.1; Value[OHM ]: 100
footprint RES_0816_SUS(My_MAXI)
pins: 1, 2

## RES_255_0.125W_1%_0805_1
designator R?, comment 255
Resistenza SMD TE Connectivity Film sottile; Manufacturer_Part_Number: CPF0805B100RE; Voltage[V]: 100; Tollerance[%]: 0.1; Serie: CPF; Codice RS: 666-2516; Vendor: TE Connectivity; Type: Resistors; Package: 0805; Power[W]: 0.1; Value[OHM ]: 100
footprint RES_0816_SUS(My_MAXI)
pins: 1, 2

## RES_258_0.125W_1%_0805_1
designator R?, comment 258
Resistenza SMD TE Connectivity Film sottile; Manufacturer_Part_Number: CPF0805B100RE; Voltage[V]: 100; Tollerance[%]: 0.1; Serie: CPF; Codice RS: 666-2516; Vendor: TE Connectivity; Type: Resistors; Package: 0805; Power[W]: 0.1; Value[OHM ]: 100
footprint RES_0816_SUS(My_MAXI)
pins: 1, 2

## RES_261_0.125W_1%_0805_1
designator R?, comment 261
Resistenza SMD TE Connectivity Film sottile; Manufacturer_Part_Number: CPF0805B100RE; Voltage[V]: 100; Tollerance[%]: 0.1; Serie: CPF; Codice RS: 666-2516; Vendor: TE Connectivity; Type: Resistors; Package: 0805; Power[W]: 0.1; Value[OHM ]: 100
footprint RES_0816_SUS(My_MAXI)
pins: 1, 2

## RES_264_0.125W_1%_0805_1
designator R?, comment 264
Resistenza SMD TE Connectivity Film sottile; Manufacturer_Part_Number: CPF0805B100RE; Voltage[V]: 100; Tollerance[%]: 0.1; Serie: CPF; Codice RS: 666-2516; Vendor: TE Connectivity; Type: Resistors; Package: 0805; Power[W]: 0.1; Value[OHM ]: 100
footprint RES_0816_SUS(My_MAXI)
pins: 1, 2

## RES_267_0.125W_1%_0805_1
designator R?, comment 267
Resistenza SMD TE Connectivity Film sottile; Manufacturer_Part_Number: CPF0805B100RE; Voltage[V]: 100; Tollerance[%]: 0.1; Serie: CPF; Codice RS: 666-2516; Vendor: TE Connectivity; Type: Resistors; Package: 0805; Power[W]: 0.1; Value[OHM ]: 100
footprint RES_0816_SUS(My_MAXI)
pins: 1, 2

## RES_271_0.125W_1%_0805_1
designator R?, comment 271
Resistenza SMD TE Connectivity Film sottile; Manufacturer_Part_Number: CPF0805B100RE; Voltage[V]: 100; Tollerance[%]: 0.1; Serie: CPF; Codice RS: 666-2516; Vendor: TE Connectivity; Type: Resistors; Package: 0805; Power[W]: 0.1; Value[OHM ]: 100
footprint RES_0816_SUS(My_MAXI)
pins: 1, 2

## RES_274_0.125W_1%_0805_1
designator R?, comment 274
Resistenza SMD TE Connectivity Film sottile; Manufacturer_Part_Number: CPF0805B100RE; Voltage[V]: 100; Tollerance[%]: 0.1; Serie: CPF; Codice RS: 666-2516; Vendor: TE Connectivity; Type: Resistors; Package: 0805; Power[W]: 0.1; Value[OHM ]: 100
footprint RES_0816_SUS(My_MAXI)
pins: 1, 2

## RES_277_0.125W_1%_0805_1
designator R?, comment 277
Resistenza SMD TE Connectivity Film sottile; Manufacturer_Part_Number: CPF0805B100RE; Voltage[V]: 100; Tollerance[%]: 0.1; Serie: CPF; Codice RS: 666-2516; Vendor: TE Connectivity; Type: Resistors; Package: 0805; Power[W]: 0.1; Value[OHM ]: 100
footprint RES_0816_SUS(My_MAXI)
pins: 1, 2

## RES_280_0.125W_1%_0805_1
designator R?, comment 280
Resistenza SMD TE Connectivity Film sottile; Manufacturer_Part_Number: CPF0805B100RE; Voltage[V]: 100; Tollerance[%]: 0.1; Serie: CPF; Codice RS: 666-2516; Vendor: TE Connectivity; Type: Resistors; Package: 0805; Power[W]: 0.1; Value[OHM ]: 100
footprint RES_0816_SUS(My_MAXI)
pins: 1, 2

## RES_284_0.125W_1%_0805_1
designator R?, comment 284
Resistenza SMD TE Connectivity Film sottile; Manufacturer_Part_Number: CPF0805B100RE; Voltage[V]: 100; Tollerance[%]: 0.1; Serie: CPF; Codice RS: 666-2516; Vendor: TE Connectivity; Type: Resistors; Package: 0805; Power[W]: 0.1; Value[OHM ]: 100
footprint RES_0816_SUS(My_MAXI)
pins: 1, 2

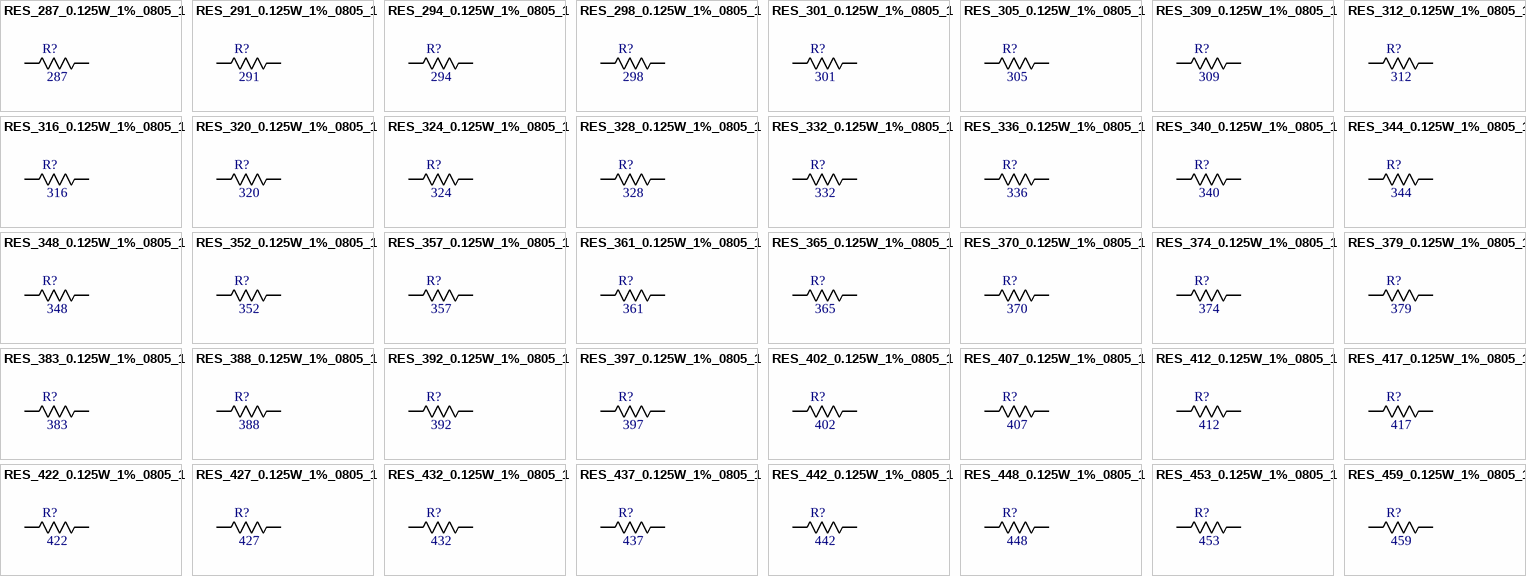
[diagram p7: symbols RES_287_0.125W_1%_0805_1 to RES_459_0.125W_1%_0805_1]

## RES_287_0.125W_1%_0805_1
designator R?, comment 287
Resistenza SMD TE Connectivity Film sottile; Manufacturer_Part_Number: CPF0805B100RE; Voltage[V]: 100; Tollerance[%]: 0.1; Serie: CPF; Codice RS: 666-2516; Vendor: TE Connectivity; Type: Resistors; Package: 0805; Power[W]: 0.1; Value[OHM ]: 100
footprint RES_0816_SUS(My_MAXI)
pins: 1, 2

## RES_291_0.125W_1%_0805_1
designator R?, comment 291
Resistenza SMD TE Connectivity Film sottile; Manufacturer_Part_Number: CPF0805B100RE; Voltage[V]: 100; Tollerance[%]: 0.1; Serie: CPF; Codice RS: 666-2516; Vendor: TE Connectivity; Type: Resistors; Package: 0805; Power[W]: 0.1; Value[OHM ]: 100
footprint RES_0816_SUS(My_MAXI)
pins: 1, 2

## RES_294_0.125W_1%_0805_1
designator R?, comment 294
Resistenza SMD TE Connectivity Film sottile; Manufacturer_Part_Number: CPF0805B100RE; Voltage[V]: 100; Tollerance[%]: 0.1; Serie: CPF; Codice RS: 666-2516; Vendor: TE Connectivity; Type: Resistors; Package: 0805; Power[W]: 0.1; Value[OHM ]: 100
footprint RES_0816_SUS(My_MAXI)
pins: 1, 2

## RES_298_0.125W_1%_0805_1
designator R?, comment 298
Resistenza SMD TE Connectivity Film sottile; Manufacturer_Part_Number: CPF0805B100RE; Voltage[V]: 100; Tollerance[%]: 0.1; Serie: CPF; Codice RS: 666-2516; Vendor: TE Connectivity; Type: Resistors; Package: 0805; Power[W]: 0.1; Value[OHM ]: 100
footprint RES_0816_SUS(My_MAXI)
pins: 1, 2

## RES_301_0.125W_1%_0805_1
designator R?, comment 301
Resistenza SMD TE Connectivity Film sottile; Manufacturer_Part_Number: CPF0805B100RE; Voltage[V]: 100; Tollerance[%]: 0.1; Serie: CPF; Codice RS: 666-2516; Vendor: TE Connectivity; Type: Resistors; Package: 0805; Power[W]: 0.1; Value[OHM ]: 100
footprint RES_0816_SUS(My_MAXI)
pins: 1, 2

## RES_305_0.125W_1%_0805_1
designator R?, comment 305
Resistenza SMD TE Connectivity Film sottile; Manufacturer_Part_Number: CPF0805B100RE; Voltage[V]: 100; Tollerance[%]: 0.1; Serie: CPF; Codice RS: 666-2516; Vendor: TE Connectivity; Type: Resistors; Package: 0805; Power[W]: 0.1; Value[OHM ]: 100
footprint RES_0816_SUS(My_MAXI)
pins: 1, 2

## RES_309_0.125W_1%_0805_1
designator R?, comment 309
Resistenza SMD TE Connectivity Film sottile; Manufacturer_Part_Number: CPF0805B100RE; Voltage[V]: 100; Tollerance[%]: 0.1; Serie: CPF; Codice RS: 666-2516; Vendor: TE Connectivity; Type: Resistors; Package: 0805; Power[W]: 0.1; Value[OHM ]: 100
footprint RES_0816_SUS(My_MAXI)
pins: 1, 2

## RES_312_0.125W_1%_0805_1
designator R?, comment 312
Resistenza SMD TE Connectivity Film sottile; Manufacturer_Part_Number: CPF0805B100RE; Voltage[V]: 100; Tollerance[%]: 0.1; Serie: CPF; Codice RS: 666-2516; Vendor: TE Connectivity; Type: Resistors; Package: 0805; Power[W]: 0.1; Value[OHM ]: 100
footprint RES_0816_SUS(My_MAXI)
pins: 1, 2